# Altium footprint library LTSTS220KGKT.PcbLib: 1 footprints
Each footprint in its own frame and in the unit in brackets; x right, y up, seen from the top. Pads: shape width x height; smd on the part's side, far side on the other; paste and mask are expansions set on the pad; w line width, h text height; cw(c..) or ccw(c..) is an arc to the next point about the centre after c.
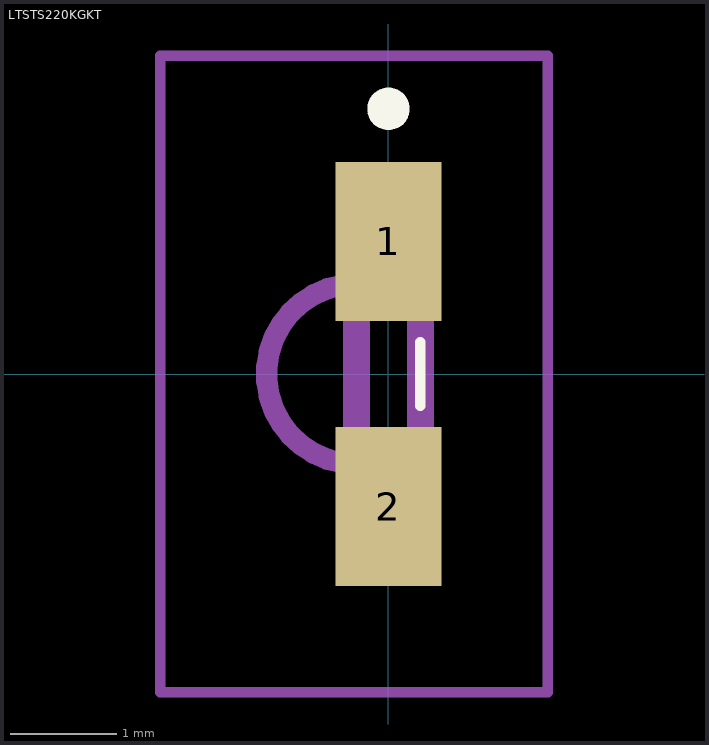
[diagram p0: the footprint, top view; thin cyan lines are the x and y axes]

## LTSTS220KGKT [mm]
pads (2):
  rect 1x1.5 smd: 1(0,1.25) 2(0,-1.25)
Top Overlay:
  lines w0.1: 0.3,-0.3 0.3,0.3
  lines w0.2: -0.1,2.5 -0.1,2.5 ; -0.1,2.5 ccw(c0,2.5) 0.1,2.5 ; -0.1,2.5 cw(c0,2.5) 0.1,2.5 ; 0.1,2.5 0.1,2.5
Mechanical 15:
  lines w0.2: -0.3,0.85 -0.3,0.85 ; -0.3,0.85 ccw(c-0.3,0) -0.3,-0.85 -0.3,0.85
  lines w0.254: -0.3,-1.05 0.3,-1.05 0.3,1.05 -0.3,1.05 -0.3,-1.05
Mechanical 20:
  lines w0.1: -2.15,-3 1.5,-3 1.5,3 -2.15,3 -2.15,-3